# Altium schematic symbol library TBP01R1-508-08BE.SchLib: 1 symbol
Pins are listed as number, name and electrical type; pins without a type are passive.

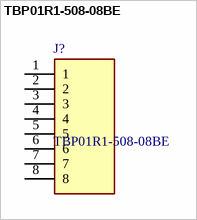
[diagram p0: symbol TBP01R1-508-08BE]

## TBP01R1-508-08BE
designator J?
2~24 Poles, Pluggable, Receptacle, Horizontal, 5.08 Pitch, Terminal Block Connector; Manufacturer_Name: Same Sky; Geometry.Height: 8.9mm; Mouser Part Number: 490-TBP01R1-508-08BE; Mouser Price/Stock: https://www.mouser.co.uk/ProductDetail/CUI-Devices/TBP01R1-508-08BE?qs=PzGy0jfpSMvxLRQvHckPeQ%3D%3D; Manufacturer_Part_Number: TBP01R1-508-08BE; Datasheet Link: https://www.sameskydevices.com/product/resource/supplyframepdf/tbp01r1-508.pdf
footprint SHDR8W100P0X508_1X8_4224X1200X890P
pins: 1, 2, 3, 4, 5, 6, 7, 8